# Altium integrated library Dallas Communication PCM Circuit.IntLib: 14 symbols
Pins are listed as number, name and electrical type; pins without a type are passive.

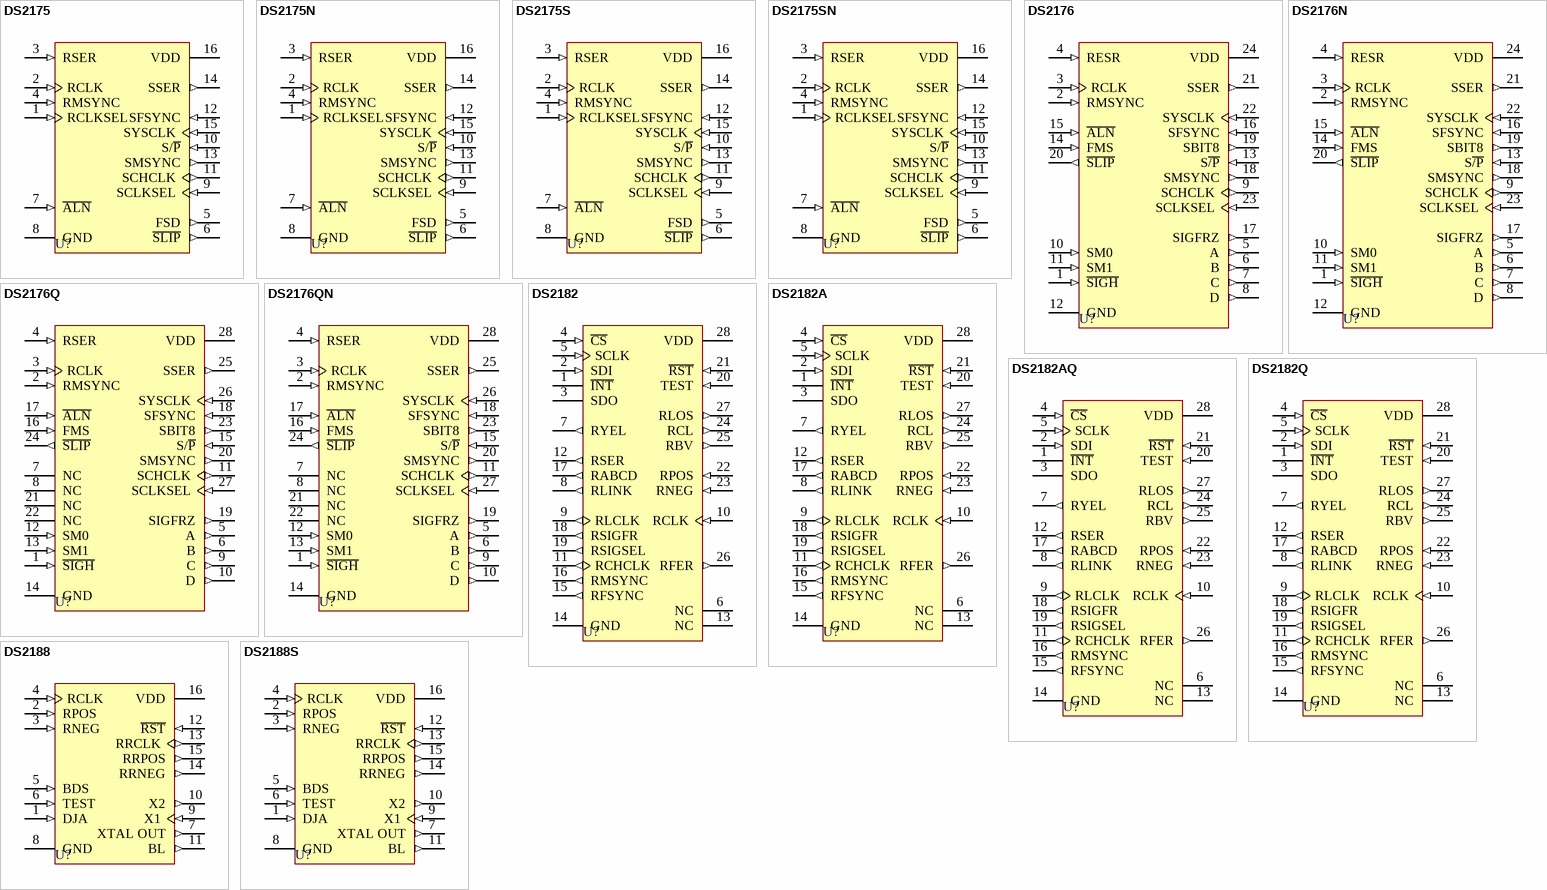
[diagram p0: symbols DS2175 to DS2188S]

## DS2175
designator U?
T1/CEPT Low-Power Elastic-Store Memory; PackageDocument: 1999; Published: 13-Oct-2000; LatestRevisionDate: 06-Jun-2005; LatestRevisionNote: Stylized 3D Model Added.; DatasheetDocument: 20-Sep-1999; PackageReference: DIP16; Publisher: Altium Limited; ComponentLink1Description: Manufacturer Link; ComponentLink1URL: http://www.maxim-ic.com/; ComponentLink2Description: Datasheet; ComponentLink2URL: http://pdfserv.maxim-ic.com/en/ds/DS2175-DS2175N.pdf
footprint DIP16 (DIP; 16 Leads; Row Spacing 7.62 mm; Pitch 2.54 mm)
3D model DIP16 (DIP; 16 Leads; Row Spacing 7.62 mm; Pitch 2.54 mm)
pins: 1 RCLKSEL (in), 2 RCLK (in), 3 RSER (in), 4 RMSYNC (in), 5 FSD (out), 6 ~{SLIP} (out), 7 ~{ALN} (in), 8 GND (power), 9 SCLKSEL (in), 10 S/~{P} (in), 11 SCHCLK (out), 12 SFSYNC (in), 13 SMSYNC (out), 14 SSER (out), 15 SYSCLK (in), 16 VDD (power)

## DS2175N
designator U?
T1/CEPT Low-Power Elastic-Store Memory; PackageDocument: 1999; Published: 13-Oct-2000; LatestRevisionDate: 06-Jun-2005; LatestRevisionNote: Stylized 3D Model Added.; DatasheetDocument: 20-Sep-1999; PackageReference: DIP16; Publisher: Altium Limited; ComponentLink1Description: Manufacturer Link; ComponentLink1URL: http://www.maxim-ic.com/; ComponentLink2Description: Datasheet; ComponentLink2URL: http://pdfserv.maxim-ic.com/en/ds/DS2175-DS2175N.pdf
footprint DIP16 (DIP; 16 Leads; Row Spacing 7.62 mm; Pitch 2.54 mm)
3D model DIP16 (DIP; 16 Leads; Row Spacing 7.62 mm; Pitch 2.54 mm)
pins: 1 RCLKSEL (in), 2 RCLK (in), 3 RSER (in), 4 RMSYNC (in), 5 FSD (out), 6 ~{SLIP} (out), 7 ~{ALN} (in), 8 GND (power), 9 SCLKSEL (in), 10 S/~{P} (in), 11 SCHCLK (out), 12 SFSYNC (in), 13 SMSYNC (out), 14 SSER (out), 15 SYSCLK (in), 16 VDD (power)

## DS2175S
designator U?
T1/CEPT Low-Power Elastic-Store Memory; PackageDocument: 1994; Published: 13-Oct-2000; LatestRevisionDate: 06-Jun-2005; LatestRevisionNote: Stylized 3D Model Added.; DatasheetDocument: 20-Sep-1999; PackageReference: SOIC16WA; Publisher: Altium Limited; ComponentLink1Description: Manufacturer Link; ComponentLink1URL: http://www.maxim-ic.com/; ComponentLink2Description: Datasheet; ComponentLink2URL: http://pdfserv.maxim-ic.com/en/ds/DS2175-DS2175N.pdf
footprint SOIC16WA (Small Outline; 16 Leads; Body Width 7.5 mm; Pitch 1.27 mm)
3D model SOIC16WA (Small Outline; 16 Leads; Body Width 7.5 mm; Pitch 1.27 mm)
pins: 1 RCLKSEL (in), 2 RCLK (in), 3 RSER (in), 4 RMSYNC (in), 5 FSD (out), 6 ~{SLIP} (out), 7 ~{ALN} (in), 8 GND (power), 9 SCLKSEL (in), 10 S/~{P} (in), 11 SCHCLK (out), 12 SFSYNC (in), 13 SMSYNC (out), 14 SSER (out), 15 SYSCLK (in), 16 VDD (power)

## DS2175SN
designator U?
T1/CEPT Low-Power Elastic-Store Memory; PackageDocument: 1994; Published: 13-Oct-2000; LatestRevisionDate: 06-Jun-2005; LatestRevisionNote: Stylized 3D Model Added.; DatasheetDocument: 20-Sep-1999; PackageReference: SOIC16WA; Publisher: Altium Limited; ComponentLink1Description: Manufacturer Link; ComponentLink1URL: http://www.maxim-ic.com/; ComponentLink2Description: Datasheet; ComponentLink2URL: http://pdfserv.maxim-ic.com/en/ds/DS2175-DS2175N.pdf
footprint SOIC16WA (Small Outline; 16 Leads; Body Width 7.5 mm; Pitch 1.27 mm)
3D model SOIC16WA (Small Outline; 16 Leads; Body Width 7.5 mm; Pitch 1.27 mm)
pins: 1 RCLKSEL (in), 2 RCLK (in), 3 RSER (in), 4 RMSYNC (in), 5 FSD (out), 6 ~{SLIP} (out), 7 ~{ALN} (in), 8 GND (power), 9 SCLKSEL (in), 10 S/~{P} (in), 11 SCHCLK (out), 12 SFSYNC (in), 13 SMSYNC (out), 14 SSER (out), 15 SYSCLK (in), 16 VDD (power)

## DS2176
designator U?
T1 Receive Buffer; PackageDocument: 1999; Published: 13-Oct-2000; LatestRevisionDate: 06-Jun-2005; LatestRevisionNote: Stylized 3D Model Added.; DatasheetDocument: 15-Sep-1999; PackageReference: DIP24NA; Publisher: Altium Limited; Code_JEDEC: MS-001-AF; ComponentLink1Description: Manufacturer Link; ComponentLink1URL: http://www.maxim-ic.com/; ComponentLink2Description: Datasheet; ComponentLink2URL: http://pdfserv.maxim-ic.com/en/ds/DS2176.pdf
footprint DIP24NA (DIP; 24 Leads; Row Spacing 7.62 mm; Pitch 2.54 mm)
3D model DIP24NA (DIP; 24 Leads; Row Spacing 7.62 mm; Pitch 2.54 mm)
pins: 1 ~{SIGH} (in), 2 RMSYNC (in), 3 RCLK (in), 4 RESR (in), 5 A (out), 6 B (out), 7 C (out), 8 D (out), 9 SCHCLK (out), 10 SM0 (in), 11 SM1 (in), 12 GND (power), 13 S~{/P} (in), 14 FMS (in), 15 ~{ALN} (in), 16 SFSYNC (in), 17 SIGFRZ (out), 18 SMSYNC (out), 19 SBIT8 (out), 20 ~{SLIP} (out), 21 SSER (out), 22 SYSCLK (in), 23 SCLKSEL (in), 24 VDD (power)

## DS2176N
designator U?
T1 Receive Buffer; PackageDocument: 1999; Published: 13-Oct-2000; LatestRevisionDate: 06-Jun-2005; LatestRevisionNote: Stylized 3D Model Added.; DatasheetDocument: 15-Sep-1999; PackageReference: DIP24NA; Publisher: Altium Limited; Code_JEDEC: MS-001-AF; ComponentLink1Description: Manufacturer Link; ComponentLink1URL: http://www.maxim-ic.com/; ComponentLink2Description: Datasheet; ComponentLink2URL: http://pdfserv.maxim-ic.com/en/ds/DS2176.pdf
footprint DIP24NA (DIP; 24 Leads; Row Spacing 7.62 mm; Pitch 2.54 mm)
3D model DIP24NA (DIP; 24 Leads; Row Spacing 7.62 mm; Pitch 2.54 mm)
pins: 1 ~{SIGH} (in), 2 RMSYNC (in), 3 RCLK (in), 4 RESR (in), 5 A (out), 6 B (out), 7 C (out), 8 D (out), 9 SCHCLK (out), 10 SM0 (in), 11 SM1 (in), 12 GND (power), 13 S~{/P} (in), 14 FMS (in), 15 ~{ALN} (in), 16 SFSYNC (in), 17 SIGFRZ (out), 18 SMSYNC (out), 19 SBIT8 (out), 20 ~{SLIP} (out), 21 SSER (out), 22 SYSCLK (in), 23 SCLKSEL (in), 24 VDD (power)

## DS2176Q
designator U?
T1 Receive Buffer; Note: Pin numbers 7, 8, 21 and 22 are Not Connected (NC); Published: 13-Oct-2000; LatestRevisionDate: 06-Jun-2005; LatestRevisionNote: Stylized 3D Model Added.; DatasheetDocument: 15-Sep-1999; PackageDocument: Aug-1999; PackageReference: PLCC28C; Publisher: Altium Limited; Code_IPC: PLCC-28; ComponentLink1Description: Manufacturer Link; ComponentLink1URL: http://www.maxim-ic.com/; ComponentLink2Description: Datasheet; ComponentLink2URL: http://pdfserv.maxim-ic.com/en/ds/DS2176.pdf
footprint PLCC28C (Leaded Chip Carrier; 28 Leads; Body 11.5 x 11.5 mm)
3D model DS2176-PLCC28C (Leaded Chip Carrier; 28 Leads; Body 11.5 x 11.5 mm)
pins: 1 ~{SIGH} (in), 2 RMSYNC (in), 3 RCLK (in), 4 RSER (in), 5 A (out), 6 B (out), 7 NC, 8 NC, 9 C (out), 10 D (out), 11 SCHCLK (out), 12 SM0 (in), 13 SM1 (in), 14 GND (power), 15 S/~{P} (in), 16 FMS (in), 17 ~{ALN} (in), 18 SFSYNC (in), 19 SIGFRZ (out), 20 SMSYNC (out), 21 NC, 22 NC, 23 SBIT8 (out), 24 ~{SLIP} (out), 25 SSER (out), 26 SYSCLK (in), 27 SCLKSEL (in), 28 VDD (power)

## DS2176QN
designator U?
T1 Receive Buffer; Note: Pin numbers 7, 8, 21 and 22 are Not Connected (NC); Published: 13-Oct-2000; LatestRevisionDate: 06-Jun-2005; LatestRevisionNote: Stylized 3D Model Added.; DatasheetDocument: 15-Sep-1999; PackageDocument: Aug-1999; PackageReference: PLCC28C; Publisher: Altium Limited; Code_IPC: PLCC-28; ComponentLink1Description: Manufacturer Link; ComponentLink1URL: http://www.maxim-ic.com/; ComponentLink2Description: Datasheet; ComponentLink2URL: http://pdfserv.maxim-ic.com/en/ds/DS2176.pdf
footprint PLCC28C (Leaded Chip Carrier; 28 Leads; Body 11.5 x 11.5 mm)
3D model DS2176-PLCC28C (Leaded Chip Carrier; 28 Leads; Body 11.5 x 11.5 mm)
pins: 1 ~{SIGH} (in), 2 RMSYNC (in), 3 RCLK (in), 4 RSER (in), 5 A (out), 6 B (out), 7 NC, 8 NC, 9 C (out), 10 D (out), 11 SCHCLK (out), 12 SM0 (in), 13 SM1 (in), 14 GND (power), 15 S/~{P} (in), 16 FMS (in), 17 ~{ALN} (in), 18 SFSYNC (in), 19 SIGFRZ (out), 20 SMSYNC (out), 21 NC, 22 NC, 23 SBIT8 (out), 24 ~{SLIP} (out), 25 SSER (out), 26 SYSCLK (in), 27 SCLKSEL (in), 28 VDD (power)

## DS2182
designator U?
T1 Line Monitor; PackageDocument: 1990; Note: Pin numbers 6 and 13 are Not Connected (NC); Published: 13-Oct-2000; LatestRevisionDate: 06-Jun-2005; LatestRevisionNote: Stylized 3D Model Added.; DatasheetDocument: 27-Feb-1990; PackageReference: DIP28WD; Publisher: Altium Limited; ComponentLink1Description: Manufacturer Link; ComponentLink1URL: http://www.maxim-ic.com/; ComponentLink2Description: Datasheet; ComponentLink2URL: http://pdfserv.maxim-ic.com/en/ds/DS2182_C.pdf
footprint DIP28WD (DIP; 28 Leads; Row Spacing 15.24 mm; Pitch 2.54 mm)
3D model DIP28W (DIP; 28 Leads; Row Spacing 15.24 mm; Pitch 2.54 mm)
pins: 1 ~{INT} (oc), 2 SDI (in), 3 SDO (hiz), 4 ~{CS} (in), 5 SCLK (in), 6 NC, 7 RYEL (out), 8 RLINK (out), 9 RLCLK (out), 10 RCLK (in), 11 RCHCLK (out), 12 RSER (out), 13 NC, 14 GND (power), 15 RFSYNC (out), 16 RMSYNC (out), 17 RABCD (out), 18 RSIGFR (out), 19 RSIGSEL (out), 20 TEST (in), 21 ~{RST} (in), 22 RPOS (in), 23 RNEG (in), 24 RCL (out), 25 RBV (out), 26 RFER (out), 27 RLOS (out), 28 VDD (power)

## DS2182A
designator U?
T1 Line Monitor; PackageDocument: 1999; Note: Pin numbers 6 and 13 are Not Connected (NC); Published: 13-Oct-2000; LatestRevisionDate: 06-Jun-2005; LatestRevisionNote: Stylized 3D Model Added.; DatasheetDocument: 22-Sep-1999; PackageReference: DIP28W; Publisher: Altium Limited; ComponentLink1Description: Manufacturer Link; ComponentLink1URL: http://www.maxim-ic.com/; ComponentLink2Description: Datasheet; ComponentLink2URL: http://pdfserv.maxim-ic.com/en/ds/DS2182A.pdf
footprint DIP28W (DIP; 28 Leads; Row Spacing 15.24 mm; Pitch 2.54 mm)
3D model DIP28W (DIP; 28 Leads; Row Spacing 15.24 mm; Pitch 2.54 mm)
pins: 1 ~{INT} (oc), 2 SDI (in), 3 SDO (hiz), 4 ~{CS} (in), 5 SCLK (in), 6 NC, 7 RYEL (out), 8 RLINK (out), 9 RLCLK (out), 10 RCLK (in), 11 RCHCLK (out), 12 RSER (out), 13 NC, 14 GND (power), 15 RFSYNC (out), 16 RMSYNC (out), 17 RABCD (out), 18 RSIGFR (out), 19 RSIGSEL (out), 20 TEST (in), 21 ~{RST} (in), 22 RPOS (in), 23 RNEG (in), 24 RCL (out), 25 RBV (out), 26 RFER (out), 27 RLOS (out), 28 VDD (power)

## DS2182AQ
designator U?
T1 Line Monitor; Note: Pin numbers 6 and 13 are Not Connected (NC); Published: 13-Oct-2000; LatestRevisionDate: 06-Jun-2005; LatestRevisionNote: Stylized 3D Model Added.; DatasheetDocument: 22-Sep-1999; PackageDocument: Aug-1999; PackageReference: PLCC28C; Publisher: Altium Limited; Code_IPC: PLCC-28; ComponentLink1Description: Manufacturer Link; ComponentLink1URL: http://www.maxim-ic.com/; ComponentLink2Description: Datasheet; ComponentLink2URL: http://pdfserv.maxim-ic.com/en/ds/DS2182A.pdf
footprint PLCC28C (Leaded Chip Carrier; 28 Leads; Body 11.5 x 11.5 mm)
3D model DS2182-PLCC28C (Leaded Chip Carrier; 28 Leads; Body 11.5 x 11.5 mm)
pins: 1 ~{INT} (oc), 2 SDI (in), 3 SDO (hiz), 4 ~{CS} (in), 5 SCLK (in), 6 NC, 7 RYEL (out), 8 RLINK (out), 9 RLCLK (out), 10 RCLK (in), 11 RCHCLK (out), 12 RSER (out), 13 NC, 14 GND (power), 15 RFSYNC (out), 16 RMSYNC (out), 17 RABCD (out), 18 RSIGFR (out), 19 RSIGSEL (out), 20 TEST (in), 21 ~{RST} (in), 22 RPOS (in), 23 RNEG (in), 24 RCL (out), 25 RBV (out), 26 RFER (out), 27 RLOS (out), 28 VDD (power)

## DS2182Q
designator U?
T1 Line Monitor; Note: Pin numbers 6 and 13 are Not Connected (NC); Published: 13-Oct-2000; LatestRevisionDate: 06-Jun-2005; LatestRevisionNote: Stylized 3D Model Added.; DatasheetDocument: 27-Feb-1990; PackageDocument: Feb-1990; PackageReference: PLCC28D; Publisher: Altium Limited; Code_IPC: PLCC-28; ComponentLink1Description: Manufacturer Link; ComponentLink1URL: http://www.maxim-ic.com/; ComponentLink2Description: Datasheet; ComponentLink2URL: http://pdfserv.maxim-ic.com/en/ds/DS2182_C.pdf
footprint PLCC28D (Leaded Chip Carrier; 28 Leads; Body 11.3 x 11.3 mm)
3D model DS2182-PLCC28C (Leaded Chip Carrier; 28 Leads; Body 11.3 x 11.3 mm)
pins: 1 ~{INT} (oc), 2 SDI (in), 3 SDO (hiz), 4 ~{CS} (in), 5 SCLK (in), 6 NC, 7 RYEL (out), 8 RLINK (out), 9 RLCLK (out), 10 RCLK (in), 11 RCHCLK (out), 12 RSER (out), 13 NC, 14 GND (power), 15 RFSYNC (out), 16 RMSYNC (out), 17 RABCD (out), 18 RSIGFR (out), 19 RSIGSEL (out), 20 TEST (in), 21 ~{RST} (in), 22 RPOS (in), 23 RNEG (in), 24 RCL (out), 25 RBV (out), 26 RFER (out), 27 RLOS (out), 28 VDD (power)

## DS2188
designator U?
T1/CEPT Jitter Attenuator; PackageDocument: 1999; Published: 13-Oct-2000; LatestRevisionDate: 06-Jun-2005; LatestRevisionNote: Stylized 3D Model Added.; DatasheetDocument: 22-Sep-1999; PackageReference: DIP16; Publisher: Altium Limited; ComponentLink1Description: Manufacturer Link; ComponentLink1URL: http://www.maxim-ic.com/; ComponentLink2Description: Datasheet; ComponentLink2URL: http://pdfserv.maxim-ic.com/en/ds/DS2188.pdf
footprint DIP16 (DIP; 16 Leads; Row Spacing 7.62 mm; Pitch 2.54 mm)
3D model DIP16 (DIP; 16 Leads; Row Spacing 7.62 mm; Pitch 2.54 mm)
pins: 1 DJA (in), 2 RPOS (in), 3 RNEG (in), 4 RCLK (in), 5 BDS (in), 6 TEST (in), 7 XTAL OUT (out), 8 GND (power), 9 X1 (in), 10 X2 (out), 11 BL (out), 12 ~{RST} (in), 13 RRCLK (out), 14 RRNEG (out), 15 RRPOS (out), 16 VDD (power)

## DS2188S
designator U?
T1/CEPT Jitter Attenuator; PackageDocument: 1994; Published: 13-Oct-2000; LatestRevisionDate: 06-Jun-2005; LatestRevisionNote: Stylized 3D Model Added.; DatasheetDocument: 22-Sep-1999; PackageReference: SOIC16WA; Publisher: Altium Limited; ComponentLink1Description: Manufacturer Link; ComponentLink1URL: http://www.maxim-ic.com/; ComponentLink2Description: Datasheet; ComponentLink2URL: http://pdfserv.maxim-ic.com/en/ds/DS2188.pdf
footprint SOIC16WA (Small Outline; 16 Leads; Body Width 7.5 mm; Pitch 1.27 mm)
3D model SOIC16WA (Small Outline; 16 Leads; Body Width 7.5 mm; Pitch 1.27 mm)
pins: 1 DJA (in), 2 RPOS (in), 3 RNEG (in), 4 RCLK (in), 5 BDS (in), 6 TEST (in), 7 XTAL OUT (out), 8 GND (power), 9 X1 (in), 10 X2 (out), 11 BL (out), 12 ~{RST} (in), 13 RRCLK (out), 14 RRNEG (out), 15 RRPOS (out), 16 VDD (power)